# EAGLE library part MAX13451EAUD+ (library MAX13451EAUD+)
MAXIM INTEGRATED PRODUCTS - MAX13451EAUD+ - RS-485 TRANSCEIVER, 20MBPS, TSSOP-14 Source: Datasheet <https://datasheets.maximintegrated.com/en/ds/MAX13450E-MAX13451E.pdf>
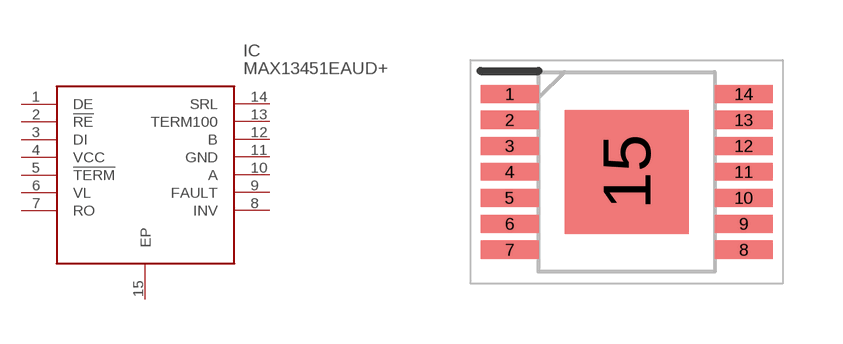
[diagram p0: symbol with the pads of SOP65P638X110-15N; footprint SOP65P638X110-15N]

Designator prefix IC

## MAX13451EAUD+ (Description: MAXIM INTEGRATED PRODUCTS - MAX13451EAUD+ - RS-485 TRANSCEIVER, 20MBPS, TSSOP-14; Height: 1.1mm; Manufacturer_Name: Maxim Integrated; Manufacturer_Part_Number: MAX13451EAUD+; Mouser_Part_Number: 700-MAX13451EAUD+; Mouser_Price-Stock: https://www.mouser.com/Search/Refine.aspx?Keyword=700-MAX13451EAUD%2B)  [SOP65P638X110-15N]
1  DE
2  !RE
3  DI
4  VCC
5  !TERM
6  VL
7  RO
8  INV
9  FAULT
10  A
11  GND
12  B
13  TERM100
14  SRL
15  EP

## Footprint SOP65P638X110-15N (pad centres in mm)
21-0108
smd 1.45 x 0.45: 1 -2.925,1.95; 2 -2.925,1.3; 3 -2.925,0.65; 4 -2.925,0; 5 -2.925,-0.65; 6 -2.925,-1.3; 7 -2.925,-1.95; 8 2.925,-1.95; 9 2.925,-1.3; 10 2.925,-0.65; 11 2.925,0; 12 2.925,0.65; 13 2.925,1.3; 14 2.925,1.95
smd 3.1 x 3.1: 15 0,0